# EAGLE library part ESDA6V1BC6 (library FaBo-ESD)
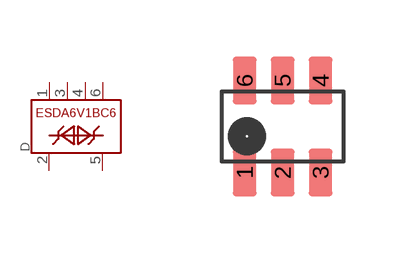
[diagram p1: symbol with the pads of SOT-23-6L; footprint SOT-23-6L]

Designator prefix D

## ESDA6V1BC6  [SOT-23-6L]
1  1
2  2
3  3
4  4
5  5
6  6

## Footprint SOT-23-6L (pad centres in mm)
smd 0.6 x 1.2: 1 -0.95,-1.15; 2 0,-1.15; 3 0.95,-1.15; 4 0.95,1.15; 5 0,1.15; 6 -0.95,1.15